# Altium schematic symbol library ERJ-3EKF6650V.SchLib: 1 symbol
Pins are listed as number, name and electrical type; pins without a type are passive.

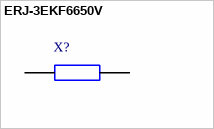
[diagram p0: symbol ERJ-3EKF6650V]

## ERJ-3EKF6650V
designator X?
Precision Thick Film Chip Resistor, 0603, 0.1W; Manufacturer_Name: Panasonic; Geometry.Height: 0.55mm; Manufacturer_Part_Number: ERJ-3EKF6650V; Mouser Part Number: 667-ERJ-3EKF6650V; Mouser Price/Stock: https://www.mouser.co.uk/ProductDetail/Panasonic/ERJ-3EKF6650V?qs=iBwFsHVUAOdBVLCRXFB5%2Fg%3D%3D; Arrow Part Number: *; Arrow Price/Stock: *; Mouser Testing Part Number: *; Mouser Testing Price/Stock: *; Datasheet Link: https://industrial.panasonic.com/cdbs/www-data/pdf/RDA0000/AOA0000C304.pdf
footprint ERJ3EK_(0603)
pins: 1, 2